# EAGLE library part 653109124022 (library Wire-to-Board (rev18a))
WR-WTB 1.25mm SMT Male Vertical Shrouded Header, 9 Pins=>Code : Con_WTB_1.25_PCB_SMT_653109124022 <http://katalog.we-online.de/media/thumbs2/eican/thb_Con_WTB_1.25_PCB_SMT_6530xx124022_pf2.psd.jpg> Details see: http://katalog.we-online.de/en/em/WTB_1_25_SMT_MALE_VERTICAL_SHROUDED_HEADER_6531XX124022 Created 2014-06-06, Karrer Zheng 2014 (C) Würth Elektronik
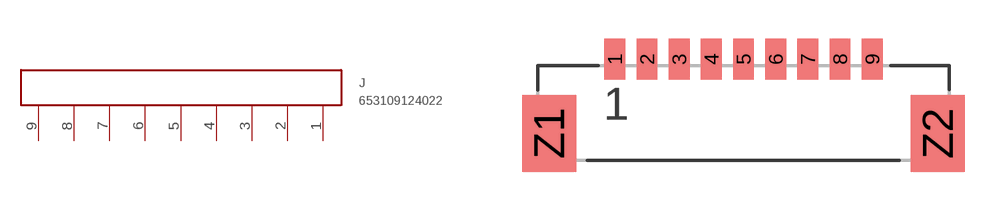
[diagram p56: symbol with the pads of 653109124022; footprint 653109124022]

Designator prefix J

## 653109124022  [653109124022]
1  9  pas
2  8  pas
3  7  pas
4  6  pas
5  5  pas
6  4  pas
7  3  pas
8  2  pas
9  1  pas

## Footprint 653109124022 (pad centres in mm)
WR-WTB 1.25mm SMT Male Vertical Shrouded Header, 9 Pins
smd 0.81 x 1.6: 1 -5,0; 2 -3.75,0; 3 -2.5,0; 4 -1.25,0; 5 0,0; 6 1.25,0; 7 2.5,0; 8 3.75,0; 9 5,0
smd 2.1 x 3: Z1 -7.55,-2.9; Z2 7.55,-2.9